# EAGLE library part OPA2340 (library burr-brown)
Single-Supply, Rail-to-Rail Operational Amplifiers MicroAmplifier(TM) Series; Product Folder:OPA2340
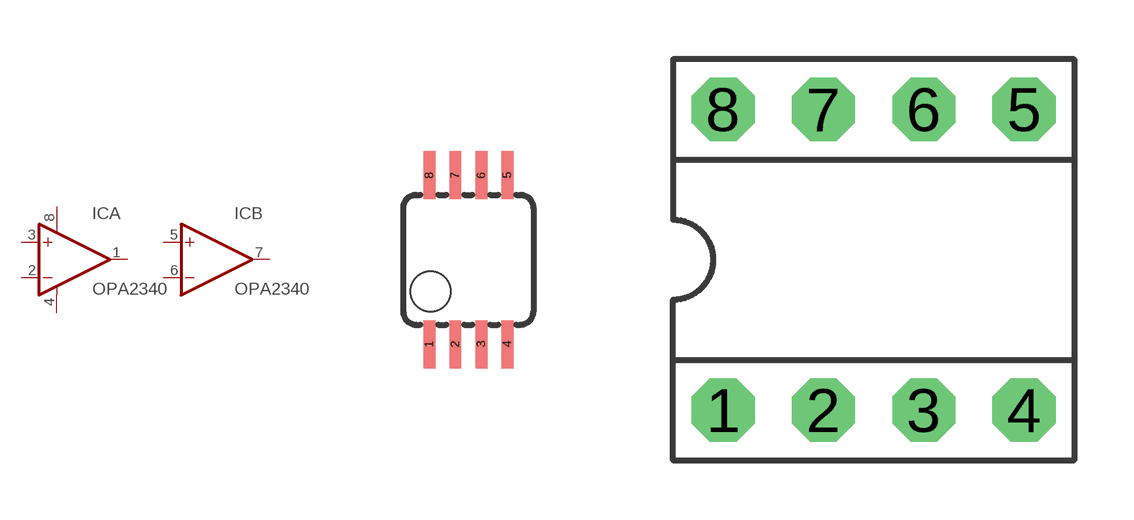
[diagram p108: symbol with the pads of MSOP08; footprints MSOP08, DIL08]

Designator prefix IC; gates A=OP-AMP+- B=OP-AMP

## OPA2340E (MF: TEXAS INSTRUMENTS; MPN: OPA2340EA/250; OC_FARNELL: 1101540; OC_NEWARK: 36K7580)  [MSOP08]
1  A:OUT  out
2  A:-IN  in
3  A:+IN  in
4  A:V-  pwr
5  B:+IN  in
6  B:-IN  in
7  B:OUT  out
8  A:V+  pwr

## OPA2340P (MF: TEXAS INSTRUMENTS; MPN: OPA2340PA; OC_FARNELL: 1129252; OC_NEWARK: 62K3460)  [DIL08]
Pads as for MSOP08

## OPA2340U (MF: TEXAS INSTRUMENTS; MPN: OPA2340UA; OC_FARNELL: 1101541; OC_NEWARK: 36K7581)  [SO08]
Pads as for MSOP08

## Footprint MSOP08 (pad centres in mm)
Mini Small Outline Package
smd 0.3 x 1.2: 1 -0.976,-2.113; 2 -0.326,-2.113; 3 0.324,-2.113; 4 0.974,-2.113; 5 0.974,2.112; 6 0.324,2.112; 7 -0.326,2.112; 8 -0.976,2.112

## Footprint DIL08 (pad centres in mm)
Dual In Line
drill 0.813 pad 1.6 octagon: 1 -3.81,-3.81; 2 -1.27,-3.81; 3 1.27,-3.81; 4 3.81,-3.81; 5 3.81,3.81; 6 1.27,3.81; 7 -1.27,3.81; 8 -3.81,3.81

## Footprint SO08 (pad centres in mm)
Small Outline Package
smd 0.61 x 2.21: 1 -1.905,-2.616; 2 -0.635,-2.616; 3 0.635,-2.616; 4 1.905,-2.616; 5 1.905,2.616; 6 0.635,2.616; 7 -0.635,2.616; 8 -1.905,2.616